# Altium schematic symbol library kmilo17pet-LT_OpAmp_LT1000.SchLib: 2280 symbols (part 60 of 79)
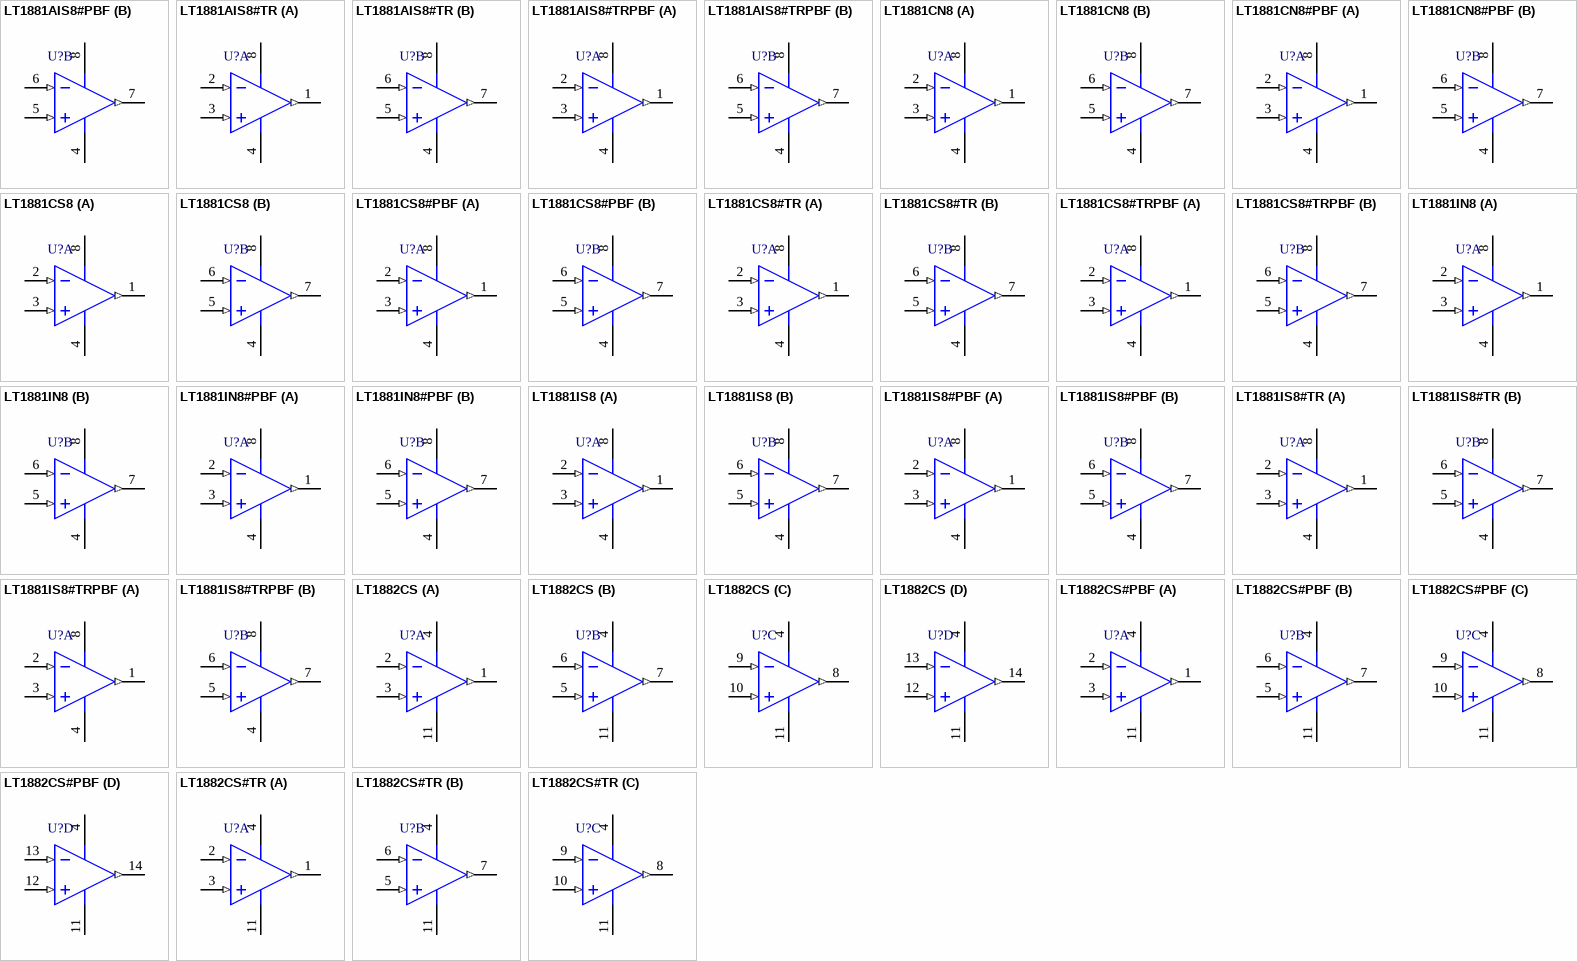
[diagram p164: symbols LT1881AIS8#PBF to LT1882CS#TR]

## LT1882CS#PBF
designator U?
Quad Channel, Picoamp Input Current, Precision Operational Amplifier, 1 MHz Typical GBW, 0.35 V/us Typical SR, 2.4 to 40 V, 14-Pin SOIC (S-14), Commercial, Pb-Free; Linear Technology Part Number: LT1882; Manufacturer: Linear Technology; PartNumber: LT1882CS#PBF; Channels (#): 4; GBW (MHz) Typical: 1; Is (mA) Typical: 0.65; SR (V/us) Typical: 0.35; Vos (mV) Guaranteed: 0.08; Vos (mV) Typical: 0.03; Vs Max (V): 40; Vs Min (V): 2.4; DatasheetVersion: Rev. B; PackageVersion: Rev G; PackageReference: LT-S-14; PackageDescription: 14-Lead Plastic Small Outline, Body 8.65 x 3.90 mm, Pitch 1.27 mm; Supplier 1: Digi-Key; Supplier Part Number 1: LT1882CS#PBF-ND; Supplier 2: Farnell; Supplier Part Number 2: 1330725; Supplier 3: Newark; Supplier Part Number 3: 57M7092; RoHS: Pb-Free; Type: VFB; Mounting Technology: Surface Mount; ComponentLink1Description: Manufacturer URL; ComponentLink1URL: http://www.linear.com/; ComponentLink2Description: Datasheet; ComponentLink2URL: http://cds.linear.com/docs/en/datasheet/18812fb.pdf; ComponentLink3Description: Package Specification; ComponentLink3URL: http://cds.linear.com/docs/en/packaging/05081610_G_S14.pdf
footprint LT-S-14_N (SOIC, 14-Leads, Body 8.65x3.90mm, Pitch 1.27mm, IPC Medium Density)
footprint LT-S-14_L (SOIC, 14-Leads, Body 8.65x3.90mm, Pitch 1.27mm, IPC High Density)
footprint LT-S-14_M (SOIC, 14-Leads, Body 8.65x3.90mm, Pitch 1.27mm, IPC Low Density)
pins on every part: 4 V+ (power), 11 V- (power)
part A pins: 1 OUT A (out), 2 -IN A (in), 3 +IN A (in)
part B pins: 5 +IN B (in), 6 -IN B (in), 7 OUT B (out)
part C pins: 8 OUT C (out), 9 -IN C (in), 10 +IN C (in)
part D pins: 12 +IN D (in), 13 -IN D (in), 14 OUT D (out)

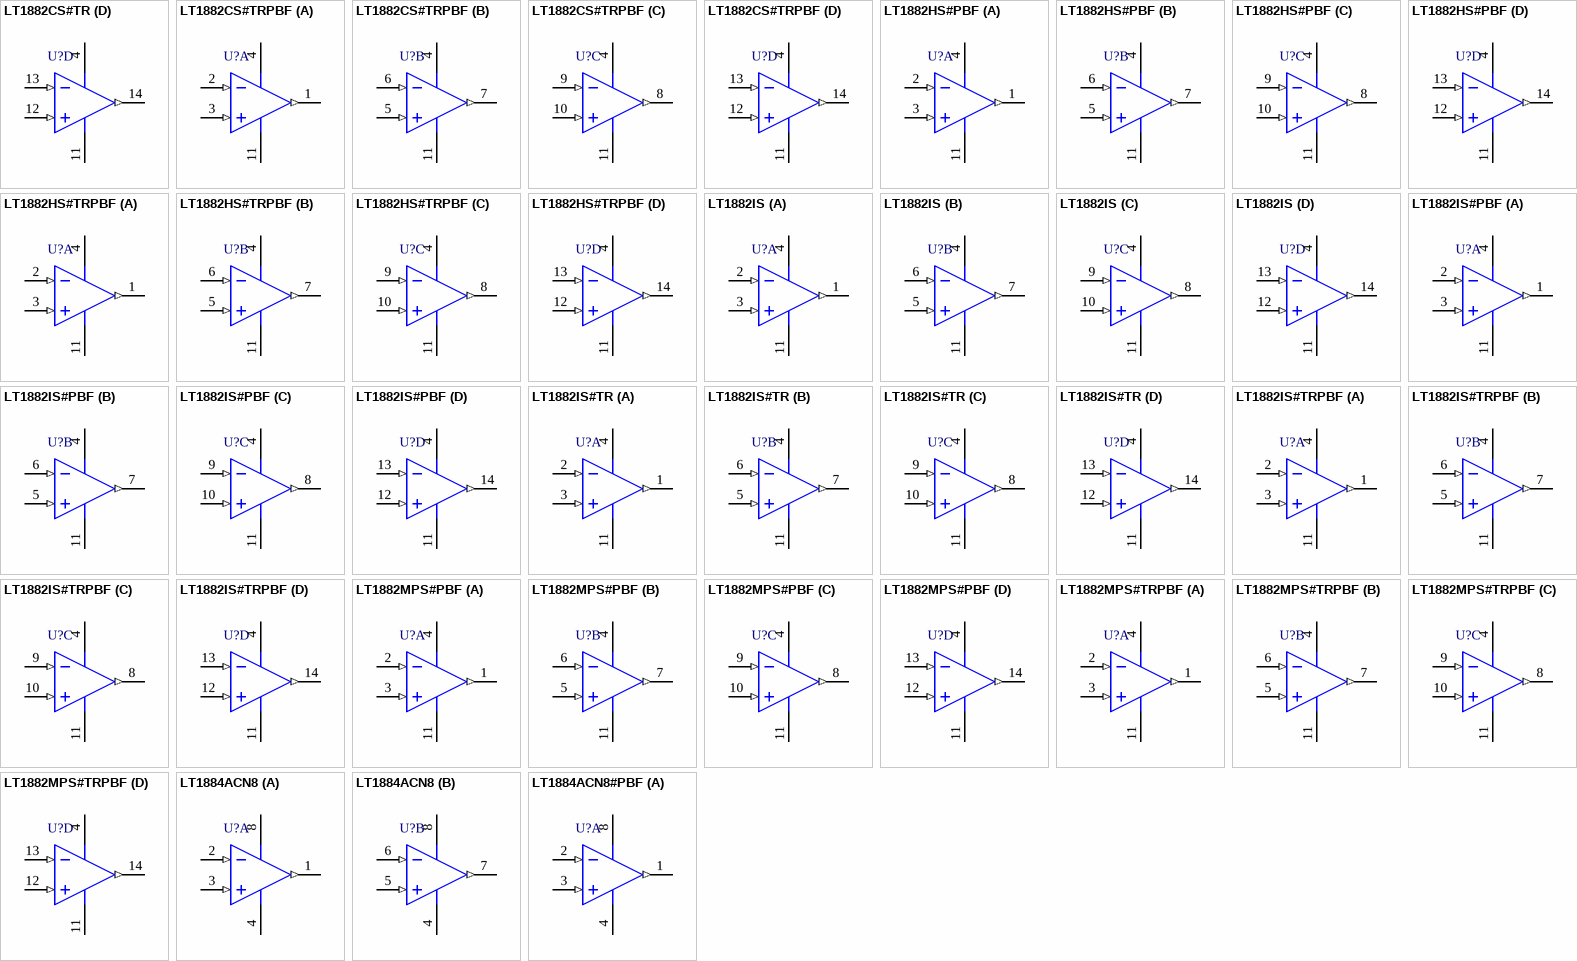
[diagram p93: symbols LT1882CS#TR to LT1884ACN8#PBF]

## LT1882CS#TR
designator U?
Quad Channel, Picoamp Input Current, Precision Operational Amplifier, 1 MHz Typical GBW, 0.35 V/us Typical SR, 2.4 to 40 V, 14-Pin SOIC (S-14), Commercial, Reel; Linear Technology Part Number: LT1882; Manufacturer: Linear Technology; PartNumber: LT1882CS#TR; Channels (#): 4; GBW (MHz) Typical: 1; Is (mA) Typical: 0.65; SR (V/us) Typical: 0.35; Vos (mV) Guaranteed: 0.08; Vos (mV) Typical: 0.03; Vs Max (V): 40; Vs Min (V): 2.4; DatasheetVersion: Rev. B; PackageVersion: Rev G; PackageReference: LT-S-14; PackageDescription: 14-Lead Plastic Small Outline, Body 8.65 x 3.90 mm, Pitch 1.27 mm; Supplier 1: Digi-Key; Supplier Part Number 1: LT1882CS#TR-ND; Packing: Reel; Type: VFB; Mounting Technology: Surface Mount; ComponentLink1Description: Manufacturer URL; ComponentLink1URL: http://www.linear.com/; ComponentLink2Description: Datasheet; ComponentLink2URL: http://cds.linear.com/docs/en/datasheet/18812fb.pdf; ComponentLink3Description: Package Specification; ComponentLink3URL: http://cds.linear.com/docs/en/packaging/05081610_G_S14.pdf
footprint LT-S-14_N (SOIC, 14-Leads, Body 8.65x3.90mm, Pitch 1.27mm, IPC Medium Density)
footprint LT-S-14_L (SOIC, 14-Leads, Body 8.65x3.90mm, Pitch 1.27mm, IPC High Density)
footprint LT-S-14_M (SOIC, 14-Leads, Body 8.65x3.90mm, Pitch 1.27mm, IPC Low Density)
pins on every part: 4 V+ (power), 11 V- (power)
part A pins: 1 OUT A (out), 2 -IN A (in), 3 +IN A (in)
part B pins: 5 +IN B (in), 6 -IN B (in), 7 OUT B (out)
part C pins: 8 OUT C (out), 9 -IN C (in), 10 +IN C (in)
part D pins: 12 +IN D (in), 13 -IN D (in), 14 OUT D (out)

## LT1882CS#TRPBF
designator U?
Quad Channel, Picoamp Input Current, Precision Operational Amplifier, 1 MHz Typical GBW, 0.35 V/us Typical SR, 2.4 to 40 V, 14-Pin SOIC (S-14), Commercial, Pb-Free, Reel; Linear Technology Part Number: LT1882; Manufacturer: Linear Technology; PartNumber: LT1882CS#TRPBF; Channels (#): 4; GBW (MHz) Typical: 1; Is (mA) Typical: 0.65; SR (V/us) Typical: 0.35; Vos (mV) Guaranteed: 0.08; Vos (mV) Typical: 0.03; Vs Max (V): 40; Vs Min (V): 2.4; DatasheetVersion: Rev. B; PackageVersion: Rev G; PackageReference: LT-S-14; PackageDescription: 14-Lead Plastic Small Outline, Body 8.65 x 3.90 mm, Pitch 1.27 mm; Supplier 1: Digi-Key; Supplier Part Number 1: LT1882CS#TRPBF-ND; Packing: Reel; RoHS: Pb-Free; Type: VFB; Mounting Technology: Surface Mount; ComponentLink1Description: Manufacturer URL; ComponentLink1URL: http://www.linear.com/; ComponentLink2Description: Datasheet; ComponentLink2URL: http://cds.linear.com/docs/en/datasheet/18812fb.pdf; ComponentLink3Description: Package Specification; ComponentLink3URL: http://cds.linear.com/docs/en/packaging/05081610_G_S14.pdf
footprint LT-S-14_N (SOIC, 14-Leads, Body 8.65x3.90mm, Pitch 1.27mm, IPC Medium Density)
footprint LT-S-14_L (SOIC, 14-Leads, Body 8.65x3.90mm, Pitch 1.27mm, IPC High Density)
footprint LT-S-14_M (SOIC, 14-Leads, Body 8.65x3.90mm, Pitch 1.27mm, IPC Low Density)
pins on every part: 4 V+ (power), 11 V- (power)
part A pins: 1 OUT A (out), 2 -IN A (in), 3 +IN A (in)
part B pins: 5 +IN B (in), 6 -IN B (in), 7 OUT B (out)
part C pins: 8 OUT C (out), 9 -IN C (in), 10 +IN C (in)
part D pins: 12 +IN D (in), 13 -IN D (in), 14 OUT D (out)

## LT1882HS#PBF
designator U?
Quad Channel, Picoamp Input Current, Precision Operational Amplifier, 1 MHz Typical GBW, 0.35 V/us Typical SR, 2.4 to 40 V, 14-Pin SOIC (S-14), High Temperature / Automotive, Pb-Free; Linear Technology Part Number: LT1882; Manufacturer: Linear Technology; PartNumber: LT1882HS#PBF; Channels (#): 4; GBW (MHz) Typical: 1; Is (mA) Typical: 0.65; SR (V/us) Typical: 0.35; Vos (mV) Guaranteed: 0.08; Vos (mV) Typical: 0.03; Vs Max (V): 40; Vs Min (V): 2.4; DatasheetVersion: Rev. B; PackageVersion: Rev G; PackageReference: LT-S-14; PackageDescription: 14-Lead Plastic Small Outline, Body 8.65 x 3.90 mm, Pitch 1.27 mm; Supplier 1: Digi-Key; Supplier Part Number 1: LT1882HS#PBF-ND; Supplier 2: Farnell; Supplier Part Number 2: 1839223; Supplier 3: Newark; Supplier Part Number 3: 51R1533; RoHS: Pb-Free; Type: VFB; Mounting Technology: Surface Mount; ComponentLink1Description: Manufacturer URL; ComponentLink1URL: http://www.linear.com/; ComponentLink2Description: Datasheet; ComponentLink2URL: http://cds.linear.com/docs/en/datasheet/18812fb.pdf; ComponentLink3Description: Package Specification; ComponentLink3URL: http://cds.linear.com/docs/en/packaging/05081610_G_S14.pdf
footprint LT-S-14_N (SOIC, 14-Leads, Body 8.65x3.90mm, Pitch 1.27mm, IPC Medium Density)
footprint LT-S-14_L (SOIC, 14-Leads, Body 8.65x3.90mm, Pitch 1.27mm, IPC High Density)
footprint LT-S-14_M (SOIC, 14-Leads, Body 8.65x3.90mm, Pitch 1.27mm, IPC Low Density)
pins on every part: 4 V+ (power), 11 V- (power)
part A pins: 1 OUT A (out), 2 -IN A (in), 3 +IN A (in)
part B pins: 5 +IN B (in), 6 -IN B (in), 7 OUT B (out)
part C pins: 8 OUT C (out), 9 -IN C (in), 10 +IN C (in)
part D pins: 12 +IN D (in), 13 -IN D (in), 14 OUT D (out)

## LT1882HS#TRPBF
designator U?
Quad Channel, Picoamp Input Current, Precision Operational Amplifier, 1 MHz Typical GBW, 0.35 V/us Typical SR, 2.4 to 40 V, 14-Pin SOIC (S-14), High Temperature / Automotive, Pb-Free, Reel; Linear Technology Part Number: LT1882; Manufacturer: Linear Technology; PartNumber: LT1882HS#TRPBF; Channels (#): 4; GBW (MHz) Typical: 1; Is (mA) Typical: 0.65; SR (V/us) Typical: 0.35; Vos (mV) Guaranteed: 0.08; Vos (mV) Typical: 0.03; Vs Max (V): 40; Vs Min (V): 2.4; DatasheetVersion: Rev. B; PackageVersion: Rev G; PackageReference: LT-S-14; PackageDescription: 14-Lead Plastic Small Outline, Body 8.65 x 3.90 mm, Pitch 1.27 mm; Supplier 1: Digi-Key; Supplier Part Number 1: LT1882HS#TRPBF-ND; Packing: Reel; RoHS: Pb-Free; Type: VFB; Mounting Technology: Surface Mount; ComponentLink1Description: Manufacturer URL; ComponentLink1URL: http://www.linear.com/; ComponentLink2Description: Datasheet; ComponentLink2URL: http://cds.linear.com/docs/en/datasheet/18812fb.pdf; ComponentLink3Description: Package Specification; ComponentLink3URL: http://cds.linear.com/docs/en/packaging/05081610_G_S14.pdf
footprint LT-S-14_N (SOIC, 14-Leads, Body 8.65x3.90mm, Pitch 1.27mm, IPC Medium Density)
footprint LT-S-14_L (SOIC, 14-Leads, Body 8.65x3.90mm, Pitch 1.27mm, IPC High Density)
footprint LT-S-14_M (SOIC, 14-Leads, Body 8.65x3.90mm, Pitch 1.27mm, IPC Low Density)
pins on every part: 4 V+ (power), 11 V- (power)
part A pins: 1 OUT A (out), 2 -IN A (in), 3 +IN A (in)
part B pins: 5 +IN B (in), 6 -IN B (in), 7 OUT B (out)
part C pins: 8 OUT C (out), 9 -IN C (in), 10 +IN C (in)
part D pins: 12 +IN D (in), 13 -IN D (in), 14 OUT D (out)

## LT1882IS
designator U?
Quad Channel, Picoamp Input Current, Precision Operational Amplifier, 1 MHz Typical GBW, 0.35 V/us Typical SR, 2.4 to 40 V, 14-Pin SOIC (S-14), Industrial; Linear Technology Part Number: LT1882; Manufacturer: Linear Technology; PartNumber: LT1882IS; Channels (#): 4; GBW (MHz) Typical: 1; Is (mA) Typical: 0.65; SR (V/us) Typical: 0.35; Vos (mV) Guaranteed: 0.08; Vos (mV) Typical: 0.03; Vs Max (V): 40; Vs Min (V): 2.4; DatasheetVersion: Rev. B; PackageVersion: Rev G; PackageReference: LT-S-14; PackageDescription: 14-Lead Plastic Small Outline, Body 8.65 x 3.90 mm, Pitch 1.27 mm; Supplier 1: Digi-Key; Supplier Part Number 1: LT1882IS-ND; Supplier 2: Newark; Supplier Part Number 2: 57M7095; Type: VFB; Mounting Technology: Surface Mount; ComponentLink1Description: Manufacturer URL; ComponentLink1URL: http://www.linear.com/; ComponentLink2Description: Datasheet; ComponentLink2URL: http://cds.linear.com/docs/en/datasheet/18812fb.pdf; ComponentLink3Description: Package Specification; ComponentLink3URL: http://cds.linear.com/docs/en/packaging/05081610_G_S14.pdf
footprint LT-S-14_N (SOIC, 14-Leads, Body 8.65x3.90mm, Pitch 1.27mm, IPC Medium Density)
footprint LT-S-14_L (SOIC, 14-Leads, Body 8.65x3.90mm, Pitch 1.27mm, IPC High Density)
footprint LT-S-14_M (SOIC, 14-Leads, Body 8.65x3.90mm, Pitch 1.27mm, IPC Low Density)
pins on every part: 4 V+ (power), 11 V- (power)
part A pins: 1 OUT A (out), 2 -IN A (in), 3 +IN A (in)
part B pins: 5 +IN B (in), 6 -IN B (in), 7 OUT B (out)
part C pins: 8 OUT C (out), 9 -IN C (in), 10 +IN C (in)
part D pins: 12 +IN D (in), 13 -IN D (in), 14 OUT D (out)

## LT1882IS#PBF
designator U?
Quad Channel, Picoamp Input Current, Precision Operational Amplifier, 1 MHz Typical GBW, 0.35 V/us Typical SR, 2.4 to 40 V, 14-Pin SOIC (S-14), Industrial, Pb-Free; Linear Technology Part Number: LT1882; Manufacturer: Linear Technology; PartNumber: LT1882IS#PBF; Channels (#): 4; GBW (MHz) Typical: 1; Is (mA) Typical: 0.65; SR (V/us) Typical: 0.35; Vos (mV) Guaranteed: 0.08; Vos (mV) Typical: 0.03; Vs Max (V): 40; Vs Min (V): 2.4; DatasheetVersion: Rev. B; PackageVersion: Rev G; PackageReference: LT-S-14; PackageDescription: 14-Lead Plastic Small Outline, Body 8.65 x 3.90 mm, Pitch 1.27 mm; Supplier 1: Digi-Key; Supplier Part Number 1: LT1882IS#PBF-ND; Supplier 2: Newark; Supplier Part Number 2: 57M7096; RoHS: Pb-Free; Type: VFB; Mounting Technology: Surface Mount; ComponentLink1Description: Manufacturer URL; ComponentLink1URL: http://www.linear.com/; ComponentLink2Description: Datasheet; ComponentLink2URL: http://cds.linear.com/docs/en/datasheet/18812fb.pdf; ComponentLink3Description: Package Specification; ComponentLink3URL: http://cds.linear.com/docs/en/packaging/05081610_G_S14.pdf
footprint LT-S-14_N (SOIC, 14-Leads, Body 8.65x3.90mm, Pitch 1.27mm, IPC Medium Density)
footprint LT-S-14_L (SOIC, 14-Leads, Body 8.65x3.90mm, Pitch 1.27mm, IPC High Density)
footprint LT-S-14_M (SOIC, 14-Leads, Body 8.65x3.90mm, Pitch 1.27mm, IPC Low Density)
pins on every part: 4 V+ (power), 11 V- (power)
part A pins: 1 OUT A (out), 2 -IN A (in), 3 +IN A (in)
part B pins: 5 +IN B (in), 6 -IN B (in), 7 OUT B (out)
part C pins: 8 OUT C (out), 9 -IN C (in), 10 +IN C (in)
part D pins: 12 +IN D (in), 13 -IN D (in), 14 OUT D (out)

## LT1882IS#TR
designator U?
Quad Channel, Picoamp Input Current, Precision Operational Amplifier, 1 MHz Typical GBW, 0.35 V/us Typical SR, 2.4 to 40 V, 14-Pin SOIC (S-14), Industrial, Reel; Linear Technology Part Number: LT1882; Manufacturer: Linear Technology; PartNumber: LT1882IS#TR; Channels (#): 4; GBW (MHz) Typical: 1; Is (mA) Typical: 0.65; SR (V/us) Typical: 0.35; Vos (mV) Guaranteed: 0.08; Vos (mV) Typical: 0.03; Vs Max (V): 40; Vs Min (V): 2.4; DatasheetVersion: Rev. B; PackageVersion: Rev G; PackageReference: LT-S-14; PackageDescription: 14-Lead Plastic Small Outline, Body 8.65 x 3.90 mm, Pitch 1.27 mm; Supplier 1: Digi-Key; Supplier Part Number 1: LT1882IS#TR-ND; Supplier 2: Newark; Supplier Part Number 2: 57M7097; Packing: Reel; Type: VFB; Mounting Technology: Surface Mount; ComponentLink1Description: Manufacturer URL; ComponentLink1URL: http://www.linear.com/; ComponentLink2Description: Datasheet; ComponentLink2URL: http://cds.linear.com/docs/en/datasheet/18812fb.pdf; ComponentLink3Description: Package Specification; ComponentLink3URL: http://cds.linear.com/docs/en/packaging/05081610_G_S14.pdf
footprint LT-S-14_N (SOIC, 14-Leads, Body 8.65x3.90mm, Pitch 1.27mm, IPC Medium Density)
footprint LT-S-14_L (SOIC, 14-Leads, Body 8.65x3.90mm, Pitch 1.27mm, IPC High Density)
footprint LT-S-14_M (SOIC, 14-Leads, Body 8.65x3.90mm, Pitch 1.27mm, IPC Low Density)
pins on every part: 4 V+ (power), 11 V- (power)
part A pins: 1 OUT A (out), 2 -IN A (in), 3 +IN A (in)
part B pins: 5 +IN B (in), 6 -IN B (in), 7 OUT B (out)
part C pins: 8 OUT C (out), 9 -IN C (in), 10 +IN C (in)
part D pins: 12 +IN D (in), 13 -IN D (in), 14 OUT D (out)

## LT1882IS#TRPBF
designator U?
Quad Channel, Picoamp Input Current, Precision Operational Amplifier, 1 MHz Typical GBW, 0.35 V/us Typical SR, 2.4 to 40 V, 14-Pin SOIC (S-14), Industrial, Pb-Free, Reel; Linear Technology Part Number: LT1882; Manufacturer: Linear Technology; PartNumber: LT1882IS#TRPBF; Channels (#): 4; GBW (MHz) Typical: 1; Is (mA) Typical: 0.65; SR (V/us) Typical: 0.35; Vos (mV) Guaranteed: 0.08; Vos (mV) Typical: 0.03; Vs Max (V): 40; Vs Min (V): 2.4; DatasheetVersion: Rev. B; PackageVersion: Rev G; PackageReference: LT-S-14; PackageDescription: 14-Lead Plastic Small Outline, Body 8.65 x 3.90 mm, Pitch 1.27 mm; Supplier 1: Digi-Key; Supplier Part Number 1: LT1882IS#TRPBF-ND; Supplier 2: Newark; Supplier Part Number 2: 57M7098; Packing: Reel; RoHS: Pb-Free; Type: VFB; Mounting Technology: Surface Mount; ComponentLink1Description: Manufacturer URL; ComponentLink1URL: http://www.linear.com/; ComponentLink2Description: Datasheet; ComponentLink2URL: http://cds.linear.com/docs/en/datasheet/18812fb.pdf; ComponentLink3Description: Package Specification; ComponentLink3URL: http://cds.linear.com/docs/en/packaging/05081610_G_S14.pdf
footprint LT-S-14_N (SOIC, 14-Leads, Body 8.65x3.90mm, Pitch 1.27mm, IPC Medium Density)
footprint LT-S-14_L (SOIC, 14-Leads, Body 8.65x3.90mm, Pitch 1.27mm, IPC High Density)
footprint LT-S-14_M (SOIC, 14-Leads, Body 8.65x3.90mm, Pitch 1.27mm, IPC Low Density)
pins on every part: 4 V+ (power), 11 V- (power)
part A pins: 1 OUT A (out), 2 -IN A (in), 3 +IN A (in)
part B pins: 5 +IN B (in), 6 -IN B (in), 7 OUT B (out)
part C pins: 8 OUT C (out), 9 -IN C (in), 10 +IN C (in)
part D pins: 12 +IN D (in), 13 -IN D (in), 14 OUT D (out)

## LT1882MPS#PBF
designator U?
Quad Channel, Picoamp Input Current, Precision Operational Amplifier, 1 MHz Typical GBW, 0.35 V/us Typical SR, 2.4 to 40 V, 14-Pin SOIC (S-14), Military Plastic, Pb-Free; Linear Technology Part Number: LT1882; Manufacturer: Linear Technology; PartNumber: LT1882MPS#PBF; Channels (#): 4; GBW (MHz) Typical: 1; Is (mA) Typical: 0.65; SR (V/us) Typical: 0.35; Vos (mV) Guaranteed: 0.08; Vos (mV) Typical: 0.03; Vs Max (V): 40; Vs Min (V): 2.4; DatasheetVersion: Rev. B; PackageVersion: Rev G; PackageReference: LT-S-14; PackageDescription: 14-Lead Plastic Small Outline, Body 8.65 x 3.90 mm, Pitch 1.27 mm; Supplier 1: Digi-Key; Supplier Part Number 1: LT1882MPS#PBF-ND; Supplier 2: Farnell; Supplier Part Number 2: 1839224; Supplier 3: Newark; Supplier Part Number 3: 51R1534; RoHS: Pb-Free; Type: VFB; Mounting Technology: Surface Mount; ComponentLink1Description: Manufacturer URL; ComponentLink1URL: http://www.linear.com/; ComponentLink2Description: Datasheet; ComponentLink2URL: http://cds.linear.com/docs/en/datasheet/18812fb.pdf; ComponentLink3Description: Package Specification; ComponentLink3URL: http://cds.linear.com/docs/en/packaging/05081610_G_S14.pdf
footprint LT-S-14_N (SOIC, 14-Leads, Body 8.65x3.90mm, Pitch 1.27mm, IPC Medium Density)
footprint LT-S-14_L (SOIC, 14-Leads, Body 8.65x3.90mm, Pitch 1.27mm, IPC High Density)
footprint LT-S-14_M (SOIC, 14-Leads, Body 8.65x3.90mm, Pitch 1.27mm, IPC Low Density)
pins on every part: 4 V+ (power), 11 V- (power)
part A pins: 1 OUT A (out), 2 -IN A (in), 3 +IN A (in)
part B pins: 5 +IN B (in), 6 -IN B (in), 7 OUT B (out)
part C pins: 8 OUT C (out), 9 -IN C (in), 10 +IN C (in)
part D pins: 12 +IN D (in), 13 -IN D (in), 14 OUT D (out)

## LT1882MPS#TRPBF
designator U?
Quad Channel, Picoamp Input Current, Precision Operational Amplifier, 1 MHz Typical GBW, 0.35 V/us Typical SR, 2.4 to 40 V, 14-Pin SOIC (S-14), Military Plastic, Pb-Free, Reel; Linear Technology Part Number: LT1882; Manufacturer: Linear Technology; PartNumber: LT1882MPS#TRPBF; Channels (#): 4; GBW (MHz) Typical: 1; Is (mA) Typical: 0.65; SR (V/us) Typical: 0.35; Vos (mV) Guaranteed: 0.08; Vos (mV) Typical: 0.03; Vs Max (V): 40; Vs Min (V): 2.4; DatasheetVersion: Rev. B; PackageVersion: Rev G; PackageReference: LT-S-14; PackageDescription: 14-Lead Plastic Small Outline, Body 8.65 x 3.90 mm, Pitch 1.27 mm; Supplier 1: Digi-Key; Supplier Part Number 1: LT1882MPS#TRPBF-ND; Packing: Reel; RoHS: Pb-Free; Type: VFB; Mounting Technology: Surface Mount; ComponentLink1Description: Manufacturer URL; ComponentLink1URL: http://www.linear.com/; ComponentLink2Description: Datasheet; ComponentLink2URL: http://cds.linear.com/docs/en/datasheet/18812fb.pdf; ComponentLink3Description: Package Specification; ComponentLink3URL: http://cds.linear.com/docs/en/packaging/05081610_G_S14.pdf
footprint LT-S-14_N (SOIC, 14-Leads, Body 8.65x3.90mm, Pitch 1.27mm, IPC Medium Density)
footprint LT-S-14_L (SOIC, 14-Leads, Body 8.65x3.90mm, Pitch 1.27mm, IPC High Density)
footprint LT-S-14_M (SOIC, 14-Leads, Body 8.65x3.90mm, Pitch 1.27mm, IPC Low Density)
pins on every part: 4 V+ (power), 11 V- (power)
part A pins: 1 OUT A (out), 2 -IN A (in), 3 +IN A (in)
part B pins: 5 +IN B (in), 6 -IN B (in), 7 OUT B (out)
part C pins: 8 OUT C (out), 9 -IN C (in), 10 +IN C (in)
part D pins: 12 +IN D (in), 13 -IN D (in), 14 OUT D (out)

## LT1884ACN8
designator U?
Dual Channel, Picoamp Input Current, Precision Operational Amplifier, 2 MHz Typical GBW, 0.9 V/us Typical SR, 2.4 to 40 V, 8-Pin DIP (N8-8), Commercial; Linear Technology Part Number: LT1884; Manufacturer: Linear Technology; PartNumber: LT1884ACN8; Channels (#): 2; Is (mA) Typical: 0.65; SR (V/us) Typical: 0.9; Vos (mV) Guaranteed: 0.05; Vos (mV) Typical: 0.025; Vs Max (V): 40; Vs Min (V): 2.4; PackageVersion: Rev I; PackageReference: LT-N8-8; PackageDescription: 8-Lead PDIP, Body 10.16 x 6.48 mm, Pitch 2.54 mm; Supplier 1: Digi-Key; Supplier Part Number 1: LT1884ACN8-ND; GBW (MHz) Typical: 2; Type: VFB; Mounting Technology: Surface Mount; ComponentLink1Description: Manufacturer URL; ComponentLink1URL: http://www.linear.com/; ComponentLink2Description: Datasheet; ComponentLink2URL: http://cds.linear.com/docs/en/datasheet/1884fs.pdf; ComponentLink3Description: Package Specification; ComponentLink3URL: http://cds.linear.com/docs/en/packaging/05081510_I_N8.pdf
footprint LT-N8-8 (DIP, 8-Leads, Body 10.16x6.48mm, Pitch 2.54mm)
pins on every part: 4 V- (power), 8 V+ (power)
part A pins: 1 OUT A (out), 2 -IN A (in), 3 +IN A (in)
part B pins: 5 +IN B (in), 6 -IN B (in), 7 OUT B (out)

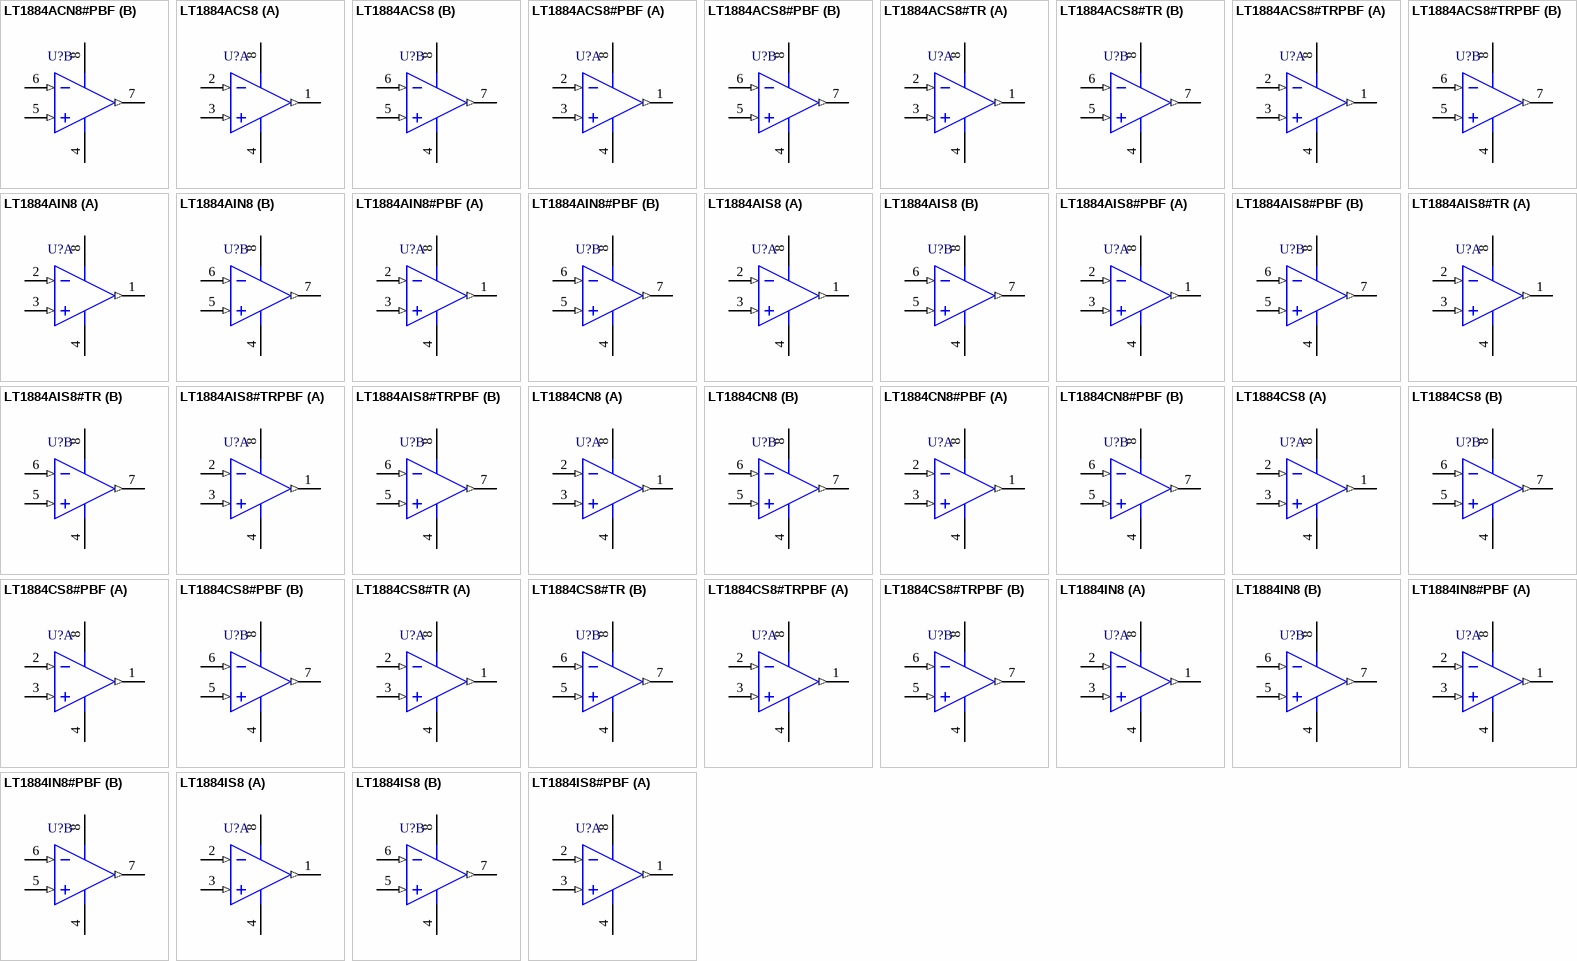
[diagram p94: symbols LT1884ACN8#PBF to LT1884IS8#PBF]

## LT1884ACN8#PBF
designator U?
Dual Channel, Picoamp Input Current, Precision Operational Amplifier, RRO, 2 MHz Typical GBW, 0.9 V/us Typical SR, 2.4 to 40 V, 8-Pin DIP (N8-8), Commercial, Pb-Free; Linear Technology Part Number: LT1884; Manufacturer: Linear Technology; PartNumber: LT1884ACN8#PBF; Channels (#): 2; Is (mA) Typical: 0.65; SR (V/us) Typical: 0.9; Vos (mV) Guaranteed: 0.05; Vos (mV) Typical: 0.025; Vs Max (V): 40; Vs Min (V): 2.4; PackageVersion: Rev I; PackageReference: LT-N8-8; PackageDescription: 8-Lead PDIP, Body 10.16 x 6.48 mm, Pitch 2.54 mm; Supplier 1: Digi-Key; Supplier Part Number 1: LT1884ACN8#PBF-ND; GBW (MHz) Typical: 2; RoHS: Pb-Free; Type: VFB; Mounting Technology: Through Hole; ComponentLink1Description: Manufacturer URL; ComponentLink1URL: http://www.linear.com/; ComponentLink2Description: Datasheet; ComponentLink2URL: http://cds.linear.com/docs/en/datasheet/1884fs.pdf; ComponentLink3Description: Package Specification; ComponentLink3URL: http://cds.linear.com/docs/en/packaging/05081510_I_N8.pdf
footprint LT-N8-8 (DIP, 8-Leads, Body 10.16x6.48mm, Pitch 2.54mm)
pins on every part: 4 V- (power), 8 V+ (power)
part A pins: 1 OUT A (out), 2 -IN A (in), 3 +IN A (in)
part B pins: 5 +IN B (in), 6 -IN B (in), 7 OUT B (out)

## LT1884ACS8
designator U?
Dual Channel, Picoamp Input Current, Precision Operational Amplifier, 2 MHz Typical GBW, 0.9 V/us Typical SR, 2.4 to 40 V, 8-Pin SOIC (S8-8), Commercial; Linear Technology Part Number: LT1884; Manufacturer: Linear Technology; PartNumber: LT1884ACS8; Channels (#): 2; Is (mA) Typical: 0.65; SR (V/us) Typical: 0.9; Vos (mV) Guaranteed: 0.05; Vos (mV) Typical: 0.025; Vs Max (V): 40; Vs Min (V): 2.4; PackageVersion: Rev G; PackageReference: LT-S8-8; PackageDescription: 8-Pin Plastic Small Outline, Body 4.9 x 3.9 mm, Pitch 1.27 mm; Supplier 1: Digi-Key; Supplier Part Number 1: LT1884ACS8-ND; GBW (MHz) Typical: 2; Type: VFB; Mounting Technology: Surface Mount; ComponentLink1Description: Manufacturer URL; ComponentLink1URL: http://www.linear.com/; ComponentLink2Description: Datasheet; ComponentLink2URL: http://cds.linear.com/docs/en/datasheet/1884fs.pdf; ComponentLink3Description: Package Specification; ComponentLink3URL: http://cds.linear.com/docs/en/packaging/05081610_G_SO8.pdf
footprint LT-S8-8_N (SOIC, 8-Leads, Body 4.9x3.9mm, Pitch 1.27mm, IPC Medium Density)
footprint LT-S8-8_L (SOIC, 8-Leads, Body 4.9x3.9mm, Pitch 1.27mm, IPC High Density)
footprint LT-S8-8_M (SOIC, 8-Leads, Body 4.9x3.9mm, Pitch 1.27mm, IPC Low Density)
pins on every part: 4 V- (power), 8 V+ (power)
part A pins: 1 OUT A (out), 2 -IN A (in), 3 +IN A (in)
part B pins: 5 +IN B (in), 6 -IN B (in), 7 OUT B (out)

## LT1884ACS8#PBF
designator U?
Dual Channel, Picoamp Input Current, Precision Operational Amplifier, RRO, 2 MHz Typical GBW, 0.9 V/us Typical SR, 2.4 to 40 V, 8-Pin SOIC (S8-8), Commercial, Pb-Free; Linear Technology Part Number: LT1884; Manufacturer: Linear Technology; PartNumber: LT1884ACS8#PBF; Channels (#): 2; Is (mA) Typical: 0.65; SR (V/us) Typical: 0.9; Vos (mV) Guaranteed: 0.05; Vos (mV) Typical: 0.025; Vs Max (V): 40; Vs Min (V): 2.4; PackageVersion: Rev G; PackageReference: LT-S8-8; PackageDescription: 8-Pin Plastic Small Outline, Body 4.9 x 3.9 mm, Pitch 1.27 mm; Supplier 1: Digi-Key; Supplier Part Number 1: LT1884ACS8#PBF-ND; Supplier 2: Farnell; Supplier Part Number 2: 2254817; Supplier 3: Newark; Supplier Part Number 3: 57M7102; GBW (MHz) Typical: 2; RoHS: Pb-Free; Type: VFB; Mounting Technology: Surface Mount; ComponentLink1Description: Manufacturer URL; ComponentLink1URL: http://www.linear.com/; ComponentLink2Description: Datasheet; ComponentLink2URL: http://cds.linear.com/docs/en/datasheet/1884fs.pdf; ComponentLink3Description: Package Specification; ComponentLink3URL: http://cds.linear.com/docs/en/packaging/05081610_G_SO8.pdf
footprint LT-S8-8_N (SOIC, 8-Leads, Body 4.9x3.9mm, Pitch 1.27mm, IPC Medium Density)
footprint LT-S8-8_L (SOIC, 8-Leads, Body 4.9x3.9mm, Pitch 1.27mm, IPC High Density)
footprint LT-S8-8_M (SOIC, 8-Leads, Body 4.9x3.9mm, Pitch 1.27mm, IPC Low Density)
pins on every part: 4 V- (power), 8 V+ (power)
part A pins: 1 OUT A (out), 2 -IN A (in), 3 +IN A (in)
part B pins: 5 +IN B (in), 6 -IN B (in), 7 OUT B (out)

## LT1884ACS8#TR
designator U?
Dual Channel, Picoamp Input Current, Precision Operational Amplifier, RRO, 2 MHz Typical GBW, 0.9 V/us Typical SR, 2.4 to 40 V, 8-Pin SOIC (S8-8), Commercial, Reel; Linear Technology Part Number: LT1884; Manufacturer: Linear Technology; PartNumber: LT1884ACS8#TR; Channels (#): 2; Is (mA) Typical: 0.65; SR (V/us) Typical: 0.9; Vos (mV) Guaranteed: 0.05; Vos (mV) Typical: 0.025; Vs Max (V): 40; Vs Min (V): 2.4; PackageVersion: Rev G; PackageReference: LT-S8-8; PackageDescription: 8-Pin Plastic Small Outline, Body 4.9 x 3.9 mm, Pitch 1.27 mm; Supplier 1: Digi-Key; Supplier Part Number 1: LT1884ACS8#TR-ND; GBW (MHz) Typical: 2; Packing: Reel; Type: VFB; Mounting Technology: Surface Mount; ComponentLink1Description: Manufacturer URL; ComponentLink1URL: http://www.linear.com/; ComponentLink2Description: Datasheet; ComponentLink2URL: http://cds.linear.com/docs/en/datasheet/1884fs.pdf; ComponentLink3Description: Package Specification; ComponentLink3URL: http://cds.linear.com/docs/en/packaging/05081610_G_SO8.pdf
footprint LT-S8-8_N (SOIC, 8-Leads, Body 4.9x3.9mm, Pitch 1.27mm, IPC Medium Density)
footprint LT-S8-8_L (SOIC, 8-Leads, Body 4.9x3.9mm, Pitch 1.27mm, IPC High Density)
footprint LT-S8-8_M (SOIC, 8-Leads, Body 4.9x3.9mm, Pitch 1.27mm, IPC Low Density)
pins on every part: 4 V- (power), 8 V+ (power)
part A pins: 1 OUT A (out), 2 -IN A (in), 3 +IN A (in)
part B pins: 5 +IN B (in), 6 -IN B (in), 7 OUT B (out)

## LT1884ACS8#TRPBF
designator U?
Dual Channel, Picoamp Input Current, Precision Operational Amplifier, RRO, 2 MHz Typical GBW, 0.9 V/us Typical SR, 2.4 to 40 V, 8-Pin SOIC (S8-8), Commercial, Pb-Free, Reel; Linear Technology Part Number: LT1884; Manufacturer: Linear Technology; PartNumber: LT1884ACS8#TRPBF; Channels (#): 2; Is (mA) Typical: 0.65; SR (V/us) Typical: 0.9; Vos (mV) Guaranteed: 0.05; Vos (mV) Typical: 0.025; Vs Max (V): 40; Vs Min (V): 2.4; PackageVersion: Rev G; PackageReference: LT-S8-8; PackageDescription: 8-Pin Plastic Small Outline, Body 4.9 x 3.9 mm, Pitch 1.27 mm; Supplier 1: Digi-Key; Supplier Part Number 1: LT1884ACS8#TRPBF-ND; GBW (MHz) Typical: 2; Packing: Reel; RoHS: Pb-Free; Type: VFB; Mounting Technology: Surface Mount; ComponentLink1Description: Manufacturer URL; ComponentLink1URL: http://www.linear.com/; ComponentLink2Description: Datasheet; ComponentLink2URL: http://cds.linear.com/docs/en/datasheet/1884fs.pdf; ComponentLink3Description: Package Specification; ComponentLink3URL: http://cds.linear.com/docs/en/packaging/05081610_G_SO8.pdf
footprint LT-S8-8_N (SOIC, 8-Leads, Body 4.9x3.9mm, Pitch 1.27mm, IPC Medium Density)
footprint LT-S8-8_L (SOIC, 8-Leads, Body 4.9x3.9mm, Pitch 1.27mm, IPC High Density)
footprint LT-S8-8_M (SOIC, 8-Leads, Body 4.9x3.9mm, Pitch 1.27mm, IPC Low Density)
pins on every part: 4 V- (power), 8 V+ (power)
part A pins: 1 OUT A (out), 2 -IN A (in), 3 +IN A (in)
part B pins: 5 +IN B (in), 6 -IN B (in), 7 OUT B (out)

## LT1884AIN8
designator U?
Dual Channel, Picoamp Input Current, Precision Operational Amplifier, RRO, 2 MHz Typical GBW, 0.9 V/us Typical SR, 2.4 to 40 V, 8-Pin DIP (N8-8), Industrial; Linear Technology Part Number: LT1884; Manufacturer: Linear Technology; PartNumber: LT1884AIN8; Channels (#): 2; Is (mA) Typical: 0.65; SR (V/us) Typical: 0.9; Vos (mV) Guaranteed: 0.05; Vos (mV) Typical: 0.025; Vs Max (V): 40; Vs Min (V): 2.4; PackageVersion: Rev I; PackageReference: LT-N8-8; PackageDescription: 8-Lead PDIP, Body 10.16 x 6.48 mm, Pitch 2.54 mm; Supplier 1: Digi-Key; Supplier Part Number 1: LT1884AIN8-ND; GBW (MHz) Typical: 2; Type: VFB; Mounting Technology: Surface Mount; ComponentLink1Description: Manufacturer URL; ComponentLink1URL: http://www.linear.com/; ComponentLink2Description: Datasheet; ComponentLink2URL: http://cds.linear.com/docs/en/datasheet/1884fs.pdf; ComponentLink3Description: Package Specification; ComponentLink3URL: http://cds.linear.com/docs/en/packaging/05081510_I_N8.pdf
footprint LT-N8-8 (DIP, 8-Leads, Body 10.16x6.48mm, Pitch 2.54mm)
pins on every part: 4 V- (power), 8 V+ (power)
part A pins: 1 OUT A (out), 2 -IN A (in), 3 +IN A (in)
part B pins: 5 +IN B (in), 6 -IN B (in), 7 OUT B (out)

## LT1884AIN8#PBF
designator U?
Dual Channel, Picoamp Input Current, Precision Operational Amplifier, RRO, 2 MHz Typical GBW, 0.9 V/us Typical SR, 2.4 to 40 V, 8-Pin DIP (N8-8), Industrial, Pb-Free; Linear Technology Part Number: LT1884; Manufacturer: Linear Technology; PartNumber: LT1884AIN8#PBF; Channels (#): 2; Is (mA) Typical: 0.65; SR (V/us) Typical: 0.9; Vos (mV) Guaranteed: 0.05; Vos (mV) Typical: 0.025; Vs Max (V): 40; Vs Min (V): 2.4; PackageVersion: Rev I; PackageReference: LT-N8-8; PackageDescription: 8-Lead PDIP, Body 10.16 x 6.48 mm, Pitch 2.54 mm; Supplier 1: Digi-Key; Supplier Part Number 1: LT1884AIN8#PBF-ND; GBW (MHz) Typical: 2; RoHS: Pb-Free; Type: VFB; Mounting Technology: Through Hole; ComponentLink1Description: Manufacturer URL; ComponentLink1URL: http://www.linear.com/; ComponentLink2Description: Datasheet; ComponentLink2URL: http://cds.linear.com/docs/en/datasheet/1884fs.pdf; ComponentLink3Description: Package Specification; ComponentLink3URL: http://cds.linear.com/docs/en/packaging/05081510_I_N8.pdf
footprint LT-N8-8 (DIP, 8-Leads, Body 10.16x6.48mm, Pitch 2.54mm)
pins on every part: 4 V- (power), 8 V+ (power)
part A pins: 1 OUT A (out), 2 -IN A (in), 3 +IN A (in)
part B pins: 5 +IN B (in), 6 -IN B (in), 7 OUT B (out)

## LT1884AIS8
designator U?
Dual Channel, Picoamp Input Current, Precision Operational Amplifier, RRO, 2 MHz Typical GBW, 0.9 V/us Typical SR, 2.4 to 40 V, 8-Pin SOIC (S8-8), Industrial; Linear Technology Part Number: LT1884; Manufacturer: Linear Technology; PartNumber: LT1884AIS8; Channels (#): 2; Is (mA) Typical: 0.65; SR (V/us) Typical: 0.9; Vos (mV) Guaranteed: 0.05; Vos (mV) Typical: 0.025; Vs Max (V): 40; Vs Min (V): 2.4; PackageVersion: Rev G; PackageReference: LT-S8-8; PackageDescription: 8-Pin Plastic Small Outline, Body 4.9 x 3.9 mm, Pitch 1.27 mm; Supplier 1: Digi-Key; Supplier Part Number 1: LT1884AIS8-ND; GBW (MHz) Typical: 2; Type: VFB; Mounting Technology: Surface Mount; ComponentLink1Description: Manufacturer URL; ComponentLink1URL: http://www.linear.com/; ComponentLink2Description: Datasheet; ComponentLink2URL: http://cds.linear.com/docs/en/datasheet/1884fs.pdf; ComponentLink3Description: Package Specification; ComponentLink3URL: http://cds.linear.com/docs/en/packaging/05081610_G_SO8.pdf
footprint LT-S8-8_N (SOIC, 8-Leads, Body 4.9x3.9mm, Pitch 1.27mm, IPC Medium Density)
footprint LT-S8-8_L (SOIC, 8-Leads, Body 4.9x3.9mm, Pitch 1.27mm, IPC High Density)
footprint LT-S8-8_M (SOIC, 8-Leads, Body 4.9x3.9mm, Pitch 1.27mm, IPC Low Density)
pins on every part: 4 V- (power), 8 V+ (power)
part A pins: 1 OUT A (out), 2 -IN A (in), 3 +IN A (in)
part B pins: 5 +IN B (in), 6 -IN B (in), 7 OUT B (out)

## LT1884AIS8#PBF
designator U?
Dual Channel, Picoamp Input Current, Precision Operational Amplifier, RRO, 2 MHz Typical GBW, 0.9 V/us Typical SR, 2.4 to 40 V, 8-Pin SOIC (S8-8), Industrial, Pb-Free; Linear Technology Part Number: LT1884; Manufacturer: Linear Technology; PartNumber: LT1884AIS8#PBF; Channels (#): 2; Is (mA) Typical: 0.65; SR (V/us) Typical: 0.9; Vos (mV) Guaranteed: 0.05; Vos (mV) Typical: 0.025; Vs Max (V): 40; Vs Min (V): 2.4; PackageVersion: Rev G; PackageReference: LT-S8-8; PackageDescription: 8-Pin Plastic Small Outline, Body 4.9 x 3.9 mm, Pitch 1.27 mm; Supplier 1: Digi-Key; Supplier Part Number 1: LT1884AIS8#PBF-ND; Supplier 2: Farnell; Supplier Part Number 2: 2294687; Supplier 3: Newark; Supplier Part Number 3: 57M7108; GBW (MHz) Typical: 2; RoHS: Pb-Free; Type: VFB; Mounting Technology: Surface Mount; ComponentLink1Description: Manufacturer URL; ComponentLink1URL: http://www.linear.com/; ComponentLink2Description: Datasheet; ComponentLink2URL: http://cds.linear.com/docs/en/datasheet/1884fs.pdf; ComponentLink3Description: Package Specification; ComponentLink3URL: http://cds.linear.com/docs/en/packaging/05081610_G_SO8.pdf
footprint LT-S8-8_N (SOIC, 8-Leads, Body 4.9x3.9mm, Pitch 1.27mm, IPC Medium Density)
footprint LT-S8-8_L (SOIC, 8-Leads, Body 4.9x3.9mm, Pitch 1.27mm, IPC High Density)
footprint LT-S8-8_M (SOIC, 8-Leads, Body 4.9x3.9mm, Pitch 1.27mm, IPC Low Density)
pins on every part: 4 V- (power), 8 V+ (power)
part A pins: 1 OUT A (out), 2 -IN A (in), 3 +IN A (in)
part B pins: 5 +IN B (in), 6 -IN B (in), 7 OUT B (out)

## LT1884AIS8#TR
designator U?
Dual Channel, Picoamp Input Current, Precision Operational Amplifier, RRO, 2 MHz Typical GBW, 0.9 V/us Typical SR, 2.4 to 40 V, 8-Pin SOIC (S8-8), Industrial, Reel; Linear Technology Part Number: LT1884; Manufacturer: Linear Technology; PartNumber: LT1884AIS8#TR; Channels (#): 2; Is (mA) Typical: 0.65; SR (V/us) Typical: 0.9; Vos (mV) Guaranteed: 0.05; Vos (mV) Typical: 0.025; Vs Max (V): 40; Vs Min (V): 2.4; PackageVersion: Rev G; PackageReference: LT-S8-8; PackageDescription: 8-Pin Plastic Small Outline, Body 4.9 x 3.9 mm, Pitch 1.27 mm; Supplier 1: Digi-Key; Supplier Part Number 1: LT1884AIS8#TR-ND; GBW (MHz) Typical: 2; Packing: Reel; Type: VFB; Mounting Technology: Surface Mount; ComponentLink1Description: Manufacturer URL; ComponentLink1URL: http://www.linear.com/; ComponentLink2Description: Datasheet; ComponentLink2URL: http://cds.linear.com/docs/en/datasheet/1884fs.pdf; ComponentLink3Description: Package Specification; ComponentLink3URL: http://cds.linear.com/docs/en/packaging/05081610_G_SO8.pdf
footprint LT-S8-8_N (SOIC, 8-Leads, Body 4.9x3.9mm, Pitch 1.27mm, IPC Medium Density)
footprint LT-S8-8_L (SOIC, 8-Leads, Body 4.9x3.9mm, Pitch 1.27mm, IPC High Density)
footprint LT-S8-8_M (SOIC, 8-Leads, Body 4.9x3.9mm, Pitch 1.27mm, IPC Low Density)
pins on every part: 4 V- (power), 8 V+ (power)
part A pins: 1 OUT A (out), 2 -IN A (in), 3 +IN A (in)
part B pins: 5 +IN B (in), 6 -IN B (in), 7 OUT B (out)

## LT1884AIS8#TRPBF
designator U?
Dual Channel, Picoamp Input Current, Precision Operational Amplifier, RRO, 2 MHz Typical GBW, 0.9 V/us Typical SR, 2.4 to 40 V, 8-Pin SOIC (S8-8), Industrial, Pb-Free, Reel; Linear Technology Part Number: LT1884; Manufacturer: Linear Technology; PartNumber: LT1884AIS8#TRPBF; Channels (#): 2; Is (mA) Typical: 0.65; SR (V/us) Typical: 0.9; Vos (mV) Guaranteed: 0.05; Vos (mV) Typical: 0.025; Vs Max (V): 40; Vs Min (V): 2.4; PackageVersion: Rev G; PackageReference: LT-S8-8; PackageDescription: 8-Pin Plastic Small Outline, Body 4.9 x 3.9 mm, Pitch 1.27 mm; Supplier 1: Digi-Key; Supplier Part Number 1: LT1884AIS8#TRPBF-ND; GBW (MHz) Typical: 2; Packing: Reel; RoHS: Pb-Free; Type: VFB; Mounting Technology: Surface Mount; ComponentLink1Description: Manufacturer URL; ComponentLink1URL: http://www.linear.com/; ComponentLink2Description: Datasheet; ComponentLink2URL: http://cds.linear.com/docs/en/datasheet/1884fs.pdf; ComponentLink3Description: Package Specification; ComponentLink3URL: http://cds.linear.com/docs/en/packaging/05081610_G_SO8.pdf
footprint LT-S8-8_N (SOIC, 8-Leads, Body 4.9x3.9mm, Pitch 1.27mm, IPC Medium Density)
footprint LT-S8-8_L (SOIC, 8-Leads, Body 4.9x3.9mm, Pitch 1.27mm, IPC High Density)
footprint LT-S8-8_M (SOIC, 8-Leads, Body 4.9x3.9mm, Pitch 1.27mm, IPC Low Density)
pins on every part: 4 V- (power), 8 V+ (power)
part A pins: 1 OUT A (out), 2 -IN A (in), 3 +IN A (in)
part B pins: 5 +IN B (in), 6 -IN B (in), 7 OUT B (out)

## LT1884CN8
designator U?
Dual Channel, Picoamp Input Current, Precision Operational Amplifier, RRO, 2 MHz Typical GBW, 0.9 V/us Typical SR, 2.4 to 40 V, 8-Pin DIP (N8-8), Commercial; Linear Technology Part Number: LT1884; Manufacturer: Linear Technology; PartNumber: LT1884CN8; Channels (#): 2; Is (mA) Typical: 0.65; SR (V/us) Typical: 0.9; Vos (mV) Guaranteed: 0.05; Vos (mV) Typical: 0.025; Vs Max (V): 40; Vs Min (V): 2.4; PackageVersion: Rev I; PackageReference: LT-N8-8; PackageDescription: 8-Lead PDIP, Body 10.16 x 6.48 mm, Pitch 2.54 mm; Supplier 1: Digi-Key; Supplier Part Number 1: LT1884CN8-ND; GBW (MHz) Typical: 2; Type: VFB; Mounting Technology: Surface Mount; ComponentLink1Description: Manufacturer URL; ComponentLink1URL: http://www.linear.com/; ComponentLink2Description: Datasheet; ComponentLink2URL: http://cds.linear.com/docs/en/datasheet/1884fs.pdf; ComponentLink3Description: Package Specification; ComponentLink3URL: http://cds.linear.com/docs/en/packaging/05081510_I_N8.pdf
footprint LT-N8-8 (DIP, 8-Leads, Body 10.16x6.48mm, Pitch 2.54mm)
pins on every part: 4 V- (power), 8 V+ (power)
part A pins: 1 OUT A (out), 2 -IN A (in), 3 +IN A (in)
part B pins: 5 +IN B (in), 6 -IN B (in), 7 OUT B (out)

## LT1884CN8#PBF
designator U?
Dual Channel, Picoamp Input Current, Precision Operational Amplifier, RRO, 2 MHz Typical GBW, 0.9 V/us Typical SR, 2.4 to 40 V, 8-Pin DIP (N8-8), Commercial, Pb-Free; Linear Technology Part Number: LT1884; Manufacturer: Linear Technology; PartNumber: LT1884CN8#PBF; Channels (#): 2; Is (mA) Typical: 0.65; SR (V/us) Typical: 0.9; Vos (mV) Guaranteed: 0.05; Vos (mV) Typical: 0.025; Vs Max (V): 40; Vs Min (V): 2.4; PackageVersion: Rev I; PackageReference: LT-N8-8; PackageDescription: 8-Lead PDIP, Body 10.16 x 6.48 mm, Pitch 2.54 mm; Supplier 1: Digi-Key; Supplier Part Number 1: LT1884CN8#PBF-ND; GBW (MHz) Typical: 2; RoHS: Pb-Free; Type: VFB; Mounting Technology: Through Hole; ComponentLink1Description: Manufacturer URL; ComponentLink1URL: http://www.linear.com/; ComponentLink2Description: Datasheet; ComponentLink2URL: http://cds.linear.com/docs/en/datasheet/1884fs.pdf; ComponentLink3Description: Package Specification; ComponentLink3URL: http://cds.linear.com/docs/en/packaging/05081510_I_N8.pdf
footprint LT-N8-8 (DIP, 8-Leads, Body 10.16x6.48mm, Pitch 2.54mm)
pins on every part: 4 V- (power), 8 V+ (power)
part A pins: 1 OUT A (out), 2 -IN A (in), 3 +IN A (in)
part B pins: 5 +IN B (in), 6 -IN B (in), 7 OUT B (out)

## LT1884CS8
designator U?
Dual Channel, Picoamp Input Current, Precision Operational Amplifier, RRO, 2 MHz Typical GBW, 0.9 V/us Typical SR, 2.4 to 40 V, 8-Pin SOIC (S8-8), Commercial; Linear Technology Part Number: LT1884; Manufacturer: Linear Technology; PartNumber: LT1884CS8; Channels (#): 2; Is (mA) Typical: 0.65; SR (V/us) Typical: 0.9; Vos (mV) Guaranteed: 0.05; Vos (mV) Typical: 0.025; Vs Max (V): 40; Vs Min (V): 2.4; PackageVersion: Rev G; PackageReference: LT-S8-8; PackageDescription: 8-Pin Plastic Small Outline, Body 4.9 x 3.9 mm, Pitch 1.27 mm; Supplier 1: Digi-Key; Supplier Part Number 1: LT1884CS8-ND; GBW (MHz) Typical: 2; Type: VFB; Mounting Technology: Surface Mount; ComponentLink1Description: Manufacturer URL; ComponentLink1URL: http://www.linear.com/; ComponentLink2Description: Datasheet; ComponentLink2URL: http://cds.linear.com/docs/en/datasheet/1884fs.pdf; ComponentLink3Description: Package Specification; ComponentLink3URL: http://cds.linear.com/docs/en/packaging/05081610_G_SO8.pdf
footprint LT-S8-8_N (SOIC, 8-Leads, Body 4.9x3.9mm, Pitch 1.27mm, IPC Medium Density)
footprint LT-S8-8_L (SOIC, 8-Leads, Body 4.9x3.9mm, Pitch 1.27mm, IPC High Density)
footprint LT-S8-8_M (SOIC, 8-Leads, Body 4.9x3.9mm, Pitch 1.27mm, IPC Low Density)
pins on every part: 4 V- (power), 8 V+ (power)
part A pins: 1 OUT A (out), 2 -IN A (in), 3 +IN A (in)
part B pins: 5 +IN B (in), 6 -IN B (in), 7 OUT B (out)

## LT1884CS8#PBF
designator U?
Dual Channel, Picoamp Input Current, Precision Operational Amplifier, RRO, 2 MHz Typical GBW, 0.9 V/us Typical SR, 2.4 to 40 V, 8-Pin SOIC (S8-8), Commercial, Pb-Free; Linear Technology Part Number: LT1884; Manufacturer: Linear Technology; PartNumber: LT1884CS8#PBF; Channels (#): 2; Is (mA) Typical: 0.65; SR (V/us) Typical: 0.9; Vos (mV) Guaranteed: 0.05; Vos (mV) Typical: 0.025; Vs Max (V): 40; Vs Min (V): 2.4; PackageVersion: Rev G; PackageReference: LT-S8-8; PackageDescription: 8-Pin Plastic Small Outline, Body 4.9 x 3.9 mm, Pitch 1.27 mm; Supplier 1: Digi-Key; Supplier Part Number 1: LT1884CS8#PBF-ND; Supplier 2: Farnell; Supplier Part Number 2: 1330726; Supplier 3: Newark; Supplier Part Number 3: 57M7114; GBW (MHz) Typical: 2; RoHS: Pb-Free; Type: VFB; Mounting Technology: Surface Mount; ComponentLink1Description: Manufacturer URL; ComponentLink1URL: http://www.linear.com/; ComponentLink2Description: Datasheet; ComponentLink2URL: http://cds.linear.com/docs/en/datasheet/1884fs.pdf; ComponentLink3Description: Package Specification; ComponentLink3URL: http://cds.linear.com/docs/en/packaging/05081610_G_SO8.pdf
footprint LT-S8-8_N (SOIC, 8-Leads, Body 4.9x3.9mm, Pitch 1.27mm, IPC Medium Density)
footprint LT-S8-8_L (SOIC, 8-Leads, Body 4.9x3.9mm, Pitch 1.27mm, IPC High Density)
footprint LT-S8-8_M (SOIC, 8-Leads, Body 4.9x3.9mm, Pitch 1.27mm, IPC Low Density)
pins on every part: 4 V- (power), 8 V+ (power)
part A pins: 1 OUT A (out), 2 -IN A (in), 3 +IN A (in)
part B pins: 5 +IN B (in), 6 -IN B (in), 7 OUT B (out)

## LT1884CS8#TR
designator U?
Dual Channel, Picoamp Input Current, Precision Operational Amplifier, RRO, 2 MHz Typical GBW, 0.9 V/us Typical SR, 2.4 to 40 V, 8-Pin SOIC (S8-8), Commercial, Reel; Linear Technology Part Number: LT1884; Manufacturer: Linear Technology; PartNumber: LT1884CS8#TR; Channels (#): 2; Is (mA) Typical: 0.65; SR (V/us) Typical: 0.9; Vos (mV) Guaranteed: 0.05; Vos (mV) Typical: 0.025; Vs Max (V): 40; Vs Min (V): 2.4; PackageVersion: Rev G; PackageReference: LT-S8-8; PackageDescription: 8-Pin Plastic Small Outline, Body 4.9 x 3.9 mm, Pitch 1.27 mm; Supplier 1: Digi-Key; Supplier Part Number 1: LT1884CS8#TR-ND; GBW (MHz) Typical: 2; Packing: Reel; Type: VFB; Mounting Technology: Surface Mount; ComponentLink1Description: Manufacturer URL; ComponentLink1URL: http://www.linear.com/; ComponentLink2Description: Datasheet; ComponentLink2URL: http://cds.linear.com/docs/en/datasheet/1884fs.pdf; ComponentLink3Description: Package Specification; ComponentLink3URL: http://cds.linear.com/docs/en/packaging/05081610_G_SO8.pdf
footprint LT-S8-8_N (SOIC, 8-Leads, Body 4.9x3.9mm, Pitch 1.27mm, IPC Medium Density)
footprint LT-S8-8_L (SOIC, 8-Leads, Body 4.9x3.9mm, Pitch 1.27mm, IPC High Density)
footprint LT-S8-8_M (SOIC, 8-Leads, Body 4.9x3.9mm, Pitch 1.27mm, IPC Low Density)
pins on every part: 4 V- (power), 8 V+ (power)
part A pins: 1 OUT A (out), 2 -IN A (in), 3 +IN A (in)
part B pins: 5 +IN B (in), 6 -IN B (in), 7 OUT B (out)

## LT1884CS8#TRPBF
designator U?
Dual Channel, Picoamp Input Current, Precision Operational Amplifier, RRO, 2 MHz Typical GBW, 0.9 V/us Typical SR, 2.4 to 40 V, 8-Pin SOIC (S8-8), Commercial, Pb-Free, Reel; Linear Technology Part Number: LT1884; Manufacturer: Linear Technology; PartNumber: LT1884CS8#TRPBF; Channels (#): 2; Is (mA) Typical: 0.65; SR (V/us) Typical: 0.9; Vos (mV) Guaranteed: 0.05; Vos (mV) Typical: 0.025; Vs Max (V): 40; Vs Min (V): 2.4; PackageVersion: Rev G; PackageReference: LT-S8-8; PackageDescription: 8-Pin Plastic Small Outline, Body 4.9 x 3.9 mm, Pitch 1.27 mm; Supplier 1: Digi-Key; Supplier Part Number 1: LT1884CS8#TRPBF-ND; Supplier 2: Newark; Supplier Part Number 2: 57M7116; GBW (MHz) Typical: 2; Packing: Reel; RoHS: Pb-Free; Type: VFB; Mounting Technology: Surface Mount; ComponentLink1Description: Manufacturer URL; ComponentLink1URL: http://www.linear.com/; ComponentLink2Description: Datasheet; ComponentLink2URL: http://cds.linear.com/docs/en/datasheet/1884fs.pdf; ComponentLink3Description: Package Specification; ComponentLink3URL: http://cds.linear.com/docs/en/packaging/05081610_G_SO8.pdf
footprint LT-S8-8_N (SOIC, 8-Leads, Body 4.9x3.9mm, Pitch 1.27mm, IPC Medium Density)
footprint LT-S8-8_L (SOIC, 8-Leads, Body 4.9x3.9mm, Pitch 1.27mm, IPC High Density)
footprint LT-S8-8_M (SOIC, 8-Leads, Body 4.9x3.9mm, Pitch 1.27mm, IPC Low Density)
pins on every part: 4 V- (power), 8 V+ (power)
part A pins: 1 OUT A (out), 2 -IN A (in), 3 +IN A (in)
part B pins: 5 +IN B (in), 6 -IN B (in), 7 OUT B (out)

## LT1884IN8
designator U?
Dual Channel, Picoamp Input Current, Precision Operational Amplifier, RRO, 2 MHz Typical GBW, 0.9 V/us Typical SR, 2.4 to 40 V, 8-Pin DIP (N8-8), Industrial; Linear Technology Part Number: LT1884; Manufacturer: Linear Technology; PartNumber: LT1884IN8; Channels (#): 2; Is (mA) Typical: 0.65; SR (V/us) Typical: 0.9; Vos (mV) Guaranteed: 0.05; Vos (mV) Typical: 0.025; Vs Max (V): 40; Vs Min (V): 2.4; PackageVersion: Rev I; PackageReference: LT-N8-8; PackageDescription: 8-Lead PDIP, Body 10.16 x 6.48 mm, Pitch 2.54 mm; Supplier 1: Digi-Key; Supplier Part Number 1: LT1884IN8-ND; GBW (MHz) Typical: 2; Type: VFB; Mounting Technology: Surface Mount; ComponentLink1Description: Manufacturer URL; ComponentLink1URL: http://www.linear.com/; ComponentLink2Description: Datasheet; ComponentLink2URL: http://cds.linear.com/docs/en/datasheet/1884fs.pdf; ComponentLink3Description: Package Specification; ComponentLink3URL: http://cds.linear.com/docs/en/packaging/05081510_I_N8.pdf
footprint LT-N8-8 (DIP, 8-Leads, Body 10.16x6.48mm, Pitch 2.54mm)
pins on every part: 4 V- (power), 8 V+ (power)
part A pins: 1 OUT A (out), 2 -IN A (in), 3 +IN A (in)
part B pins: 5 +IN B (in), 6 -IN B (in), 7 OUT B (out)

## LT1884IN8#PBF
designator U?
Dual Channel, Picoamp Input Current, Precision Operational Amplifier, RRO, 2 MHz Typical GBW, 0.9 V/us Typical SR, 2.4 to 40 V, 8-Pin DIP (N8-8), Industrial, Pb-Free; Linear Technology Part Number: LT1884; Manufacturer: Linear Technology; PartNumber: LT1884IN8#PBF; Channels (#): 2; Is (mA) Typical: 0.65; SR (V/us) Typical: 0.9; Vos (mV) Guaranteed: 0.05; Vos (mV) Typical: 0.025; Vs Max (V): 40; Vs Min (V): 2.4; PackageVersion: Rev I; PackageReference: LT-N8-8; PackageDescription: 8-Lead PDIP, Body 10.16 x 6.48 mm, Pitch 2.54 mm; Supplier 1: Digi-Key; Supplier Part Number 1: LT1884IN8#PBF-ND; GBW (MHz) Typical: 2; RoHS: Pb-Free; Type: VFB; Mounting Technology: Through Hole; ComponentLink1Description: Manufacturer URL; ComponentLink1URL: http://www.linear.com/; ComponentLink2Description: Datasheet; ComponentLink2URL: http://cds.linear.com/docs/en/datasheet/1884fs.pdf; ComponentLink3Description: Package Specification; ComponentLink3URL: http://cds.linear.com/docs/en/packaging/05081510_I_N8.pdf
footprint LT-N8-8 (DIP, 8-Leads, Body 10.16x6.48mm, Pitch 2.54mm)
pins on every part: 4 V- (power), 8 V+ (power)
part A pins: 1 OUT A (out), 2 -IN A (in), 3 +IN A (in)
part B pins: 5 +IN B (in), 6 -IN B (in), 7 OUT B (out)

## LT1884IS8
designator U?
Dual Channel, Picoamp Input Current, Precision Operational Amplifier, RRO, 2 MHz Typical GBW, 0.9 V/us Typical SR, 2.4 to 40 V, 8-Pin SOIC (S8-8), Industrial; Linear Technology Part Number: LT1884; Manufacturer: Linear Technology; PartNumber: LT1884IS8; Channels (#): 2; Is (mA) Typical: 0.65; SR (V/us) Typical: 0.9; Vos (mV) Guaranteed: 0.05; Vos (mV) Typical: 0.025; Vs Max (V): 40; Vs Min (V): 2.4; PackageVersion: Rev G; PackageReference: LT-S8-8; PackageDescription: 8-Pin Plastic Small Outline, Body 4.9 x 3.9 mm, Pitch 1.27 mm; Supplier 1: Digi-Key; Supplier Part Number 1: LT1884IS8-ND; GBW (MHz) Typical: 2; Type: VFB; Mounting Technology: Surface Mount; ComponentLink1Description: Manufacturer URL; ComponentLink1URL: http://www.linear.com/; ComponentLink2Description: Datasheet; ComponentLink2URL: http://cds.linear.com/docs/en/datasheet/1884fs.pdf; ComponentLink3Description: Package Specification; ComponentLink3URL: http://cds.linear.com/docs/en/packaging/05081610_G_SO8.pdf
footprint LT-S8-8_N (SOIC, 8-Leads, Body 4.9x3.9mm, Pitch 1.27mm, IPC Medium Density)
footprint LT-S8-8_L (SOIC, 8-Leads, Body 4.9x3.9mm, Pitch 1.27mm, IPC High Density)
footprint LT-S8-8_M (SOIC, 8-Leads, Body 4.9x3.9mm, Pitch 1.27mm, IPC Low Density)
pins on every part: 4 V- (power), 8 V+ (power)
part A pins: 1 OUT A (out), 2 -IN A (in), 3 +IN A (in)
part B pins: 5 +IN B (in), 6 -IN B (in), 7 OUT B (out)

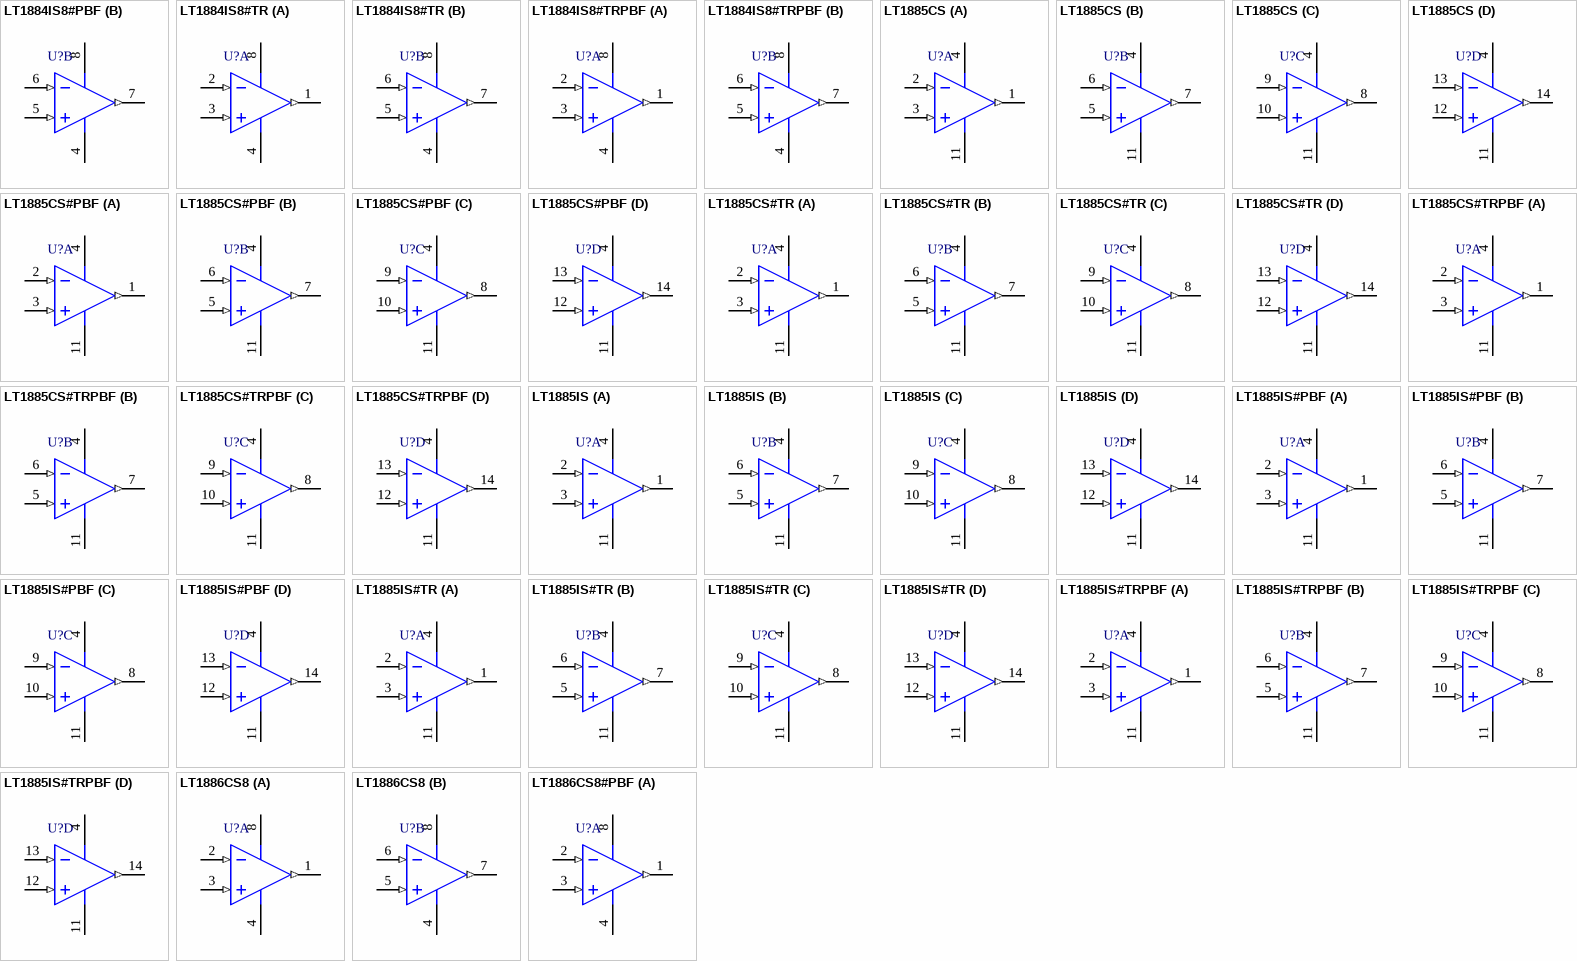
[diagram p95: symbols LT1884IS8#PBF to LT1886CS8#PBF]

## LT1884IS8#PBF
designator U?
Dual Channel, Picoamp Input Current, Precision Operational Amplifier, RRO, 2 MHz Typical GBW, 0.9 V/us Typical SR, 2.4 to 40 V, 8-Pin SOIC (S8-8), Industrial, Pb-Free; Linear Technology Part Number: LT1884; Manufacturer: Linear Technology; PartNumber: LT1884IS8#PBF; Channels (#): 2; Is (mA) Typical: 0.65; SR (V/us) Typical: 0.9; Vos (mV) Guaranteed: 0.05; Vos (mV) Typical: 0.025; Vs Max (V): 40; Vs Min (V): 2.4; PackageVersion: Rev G; PackageReference: LT-S8-8; PackageDescription: 8-Pin Plastic Small Outline, Body 4.9 x 3.9 mm, Pitch 1.27 mm; Supplier 1: Digi-Key; Supplier Part Number 1: LT1884IS8#PBF-ND; Supplier 2: Farnell; Supplier Part Number 2: 2294688; Supplier 3: Newark; Supplier Part Number 3: 57M7120; GBW (MHz) Typical: 2; RoHS: Pb-Free; Type: VFB; Mounting Technology: Surface Mount; ComponentLink1Description: Manufacturer URL; ComponentLink1URL: http://www.linear.com/; ComponentLink2Description: Datasheet; ComponentLink2URL: http://cds.linear.com/docs/en/datasheet/1884fs.pdf; ComponentLink3Description: Package Specification; ComponentLink3URL: http://cds.linear.com/docs/en/packaging/05081610_G_SO8.pdf
footprint LT-S8-8_N (SOIC, 8-Leads, Body 4.9x3.9mm, Pitch 1.27mm, IPC Medium Density)
footprint LT-S8-8_L (SOIC, 8-Leads, Body 4.9x3.9mm, Pitch 1.27mm, IPC High Density)
footprint LT-S8-8_M (SOIC, 8-Leads, Body 4.9x3.9mm, Pitch 1.27mm, IPC Low Density)
pins on every part: 4 V- (power), 8 V+ (power)
part A pins: 1 OUT A (out), 2 -IN A (in), 3 +IN A (in)
part B pins: 5 +IN B (in), 6 -IN B (in), 7 OUT B (out)